# EAGLE library part CON-HIROSE-DF11_DF11-10-2DSA (library 52101-101-REV-A_v16)
HEADER
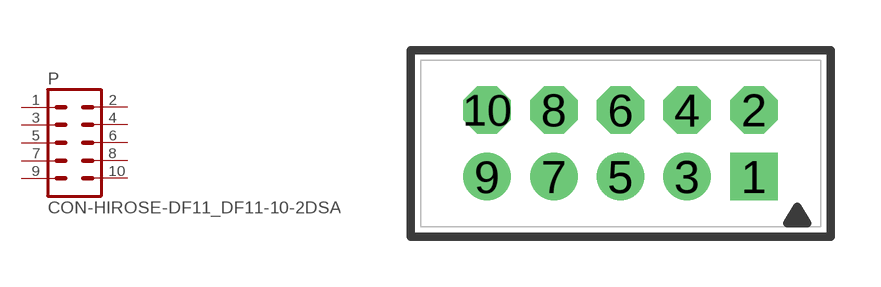
[diagram p7: symbol with the pads of CON-HIROSE-DF11_DF11-10DP-2DSA; footprint CON-HIROSE-DF11_DF11-10DP-2DSA]

Designator prefix P

## CON-HIROSE-DF11_DF11-10-2DSA  [CON-HIROSE-DF11_DF11-10DP-2DSA]
1  1  pas
2  2  pas
3  3  pas
4  4  pas
5  5  pas
6  6  pas
7  7  pas
8  8  pas
9  9  pas
10  10  pas

## Footprint CON-HIROSE-DF11_DF11-10DP-2DSA (pad centres in mm)
HEADER
drill 0.914 square: 1 4,-1
drill 0.914 octagon: 2 4,1; 4 2,1; 6 0,1; 8 -2,1; 10 -4,1
drill 0.914: 3 2,-1; 5 0,-1; 7 -2,-1; 9 -4,-1